# EAGLE library part BQ24055_DSS_12 (library Texas Instruments)
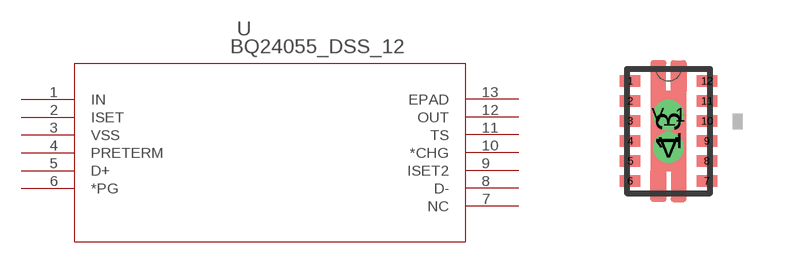
[diagram p5: symbol with the pads of DSS12_P9X2; footprint DSS12_P9X2]

Designator prefix U

## BQ24055_DSS_12 (DATASHEETURL: http://www.ti.com/lit/gpn/BQ24055; DESCRIPTION: 800mA, Single-Input, Single Cell Li-Ion Battery Charger with Automatic AC/USB Detection and PG; FAMILY_NAME: BATTERY CHARGE MANAGEMENT; GENERIC_PART_NUMBER: BQ24055; INDUSTRY_STD_PKG_TYPE: SON; MANUFACTURER: Texas Instruments; PACKAGE_DESIGNATOR: DSS; PIN_COUNT: 12)  [DSS12_P9X2]
1  IN  in
2  ISET  in
3  VSS  pwr
4  PRETERM  in
5  D+  in
6  *PG  out
7  NC  nc
8  D-  in
9  ISET2  in
10  *CHG  out
11  TS  in
12  OUT  out
13  EPAD  pwr

## Footprint DSS12_P9X2 (pad centres in mm)
smd 0.508 x 0.279: 1 -0.959,1.25; 2 -0.959,0.75; 3 -0.959,0.25; 4 -0.959,-0.25; 5 -0.959,-0.75; 6 -0.959,-1.25; 7 0.959,-1.25; 8 0.959,-0.75; 9 0.959,-0.25; 10 0.959,0.25; 11 0.959,0.75; 12 0.959,1.25
smd 0.889 x 2.007: 13 0,0
drill 0.254: V 0,-0.406; V_1 0,0.406